# Altium footprint library Shrink Small Outline (~0.6mm Pitch).PcbLib: 43 footprints (part 2 of 3)
Each footprint in its own frame and in the unit in brackets; x right, y up, seen from the top. Pads: shape width x height; smd on the part's side, far side on the other; paste and mask are expansions set on the pad; w line width, h text height; cw(c..) or ccw(c..) is an arc to the next point about the centre after c.
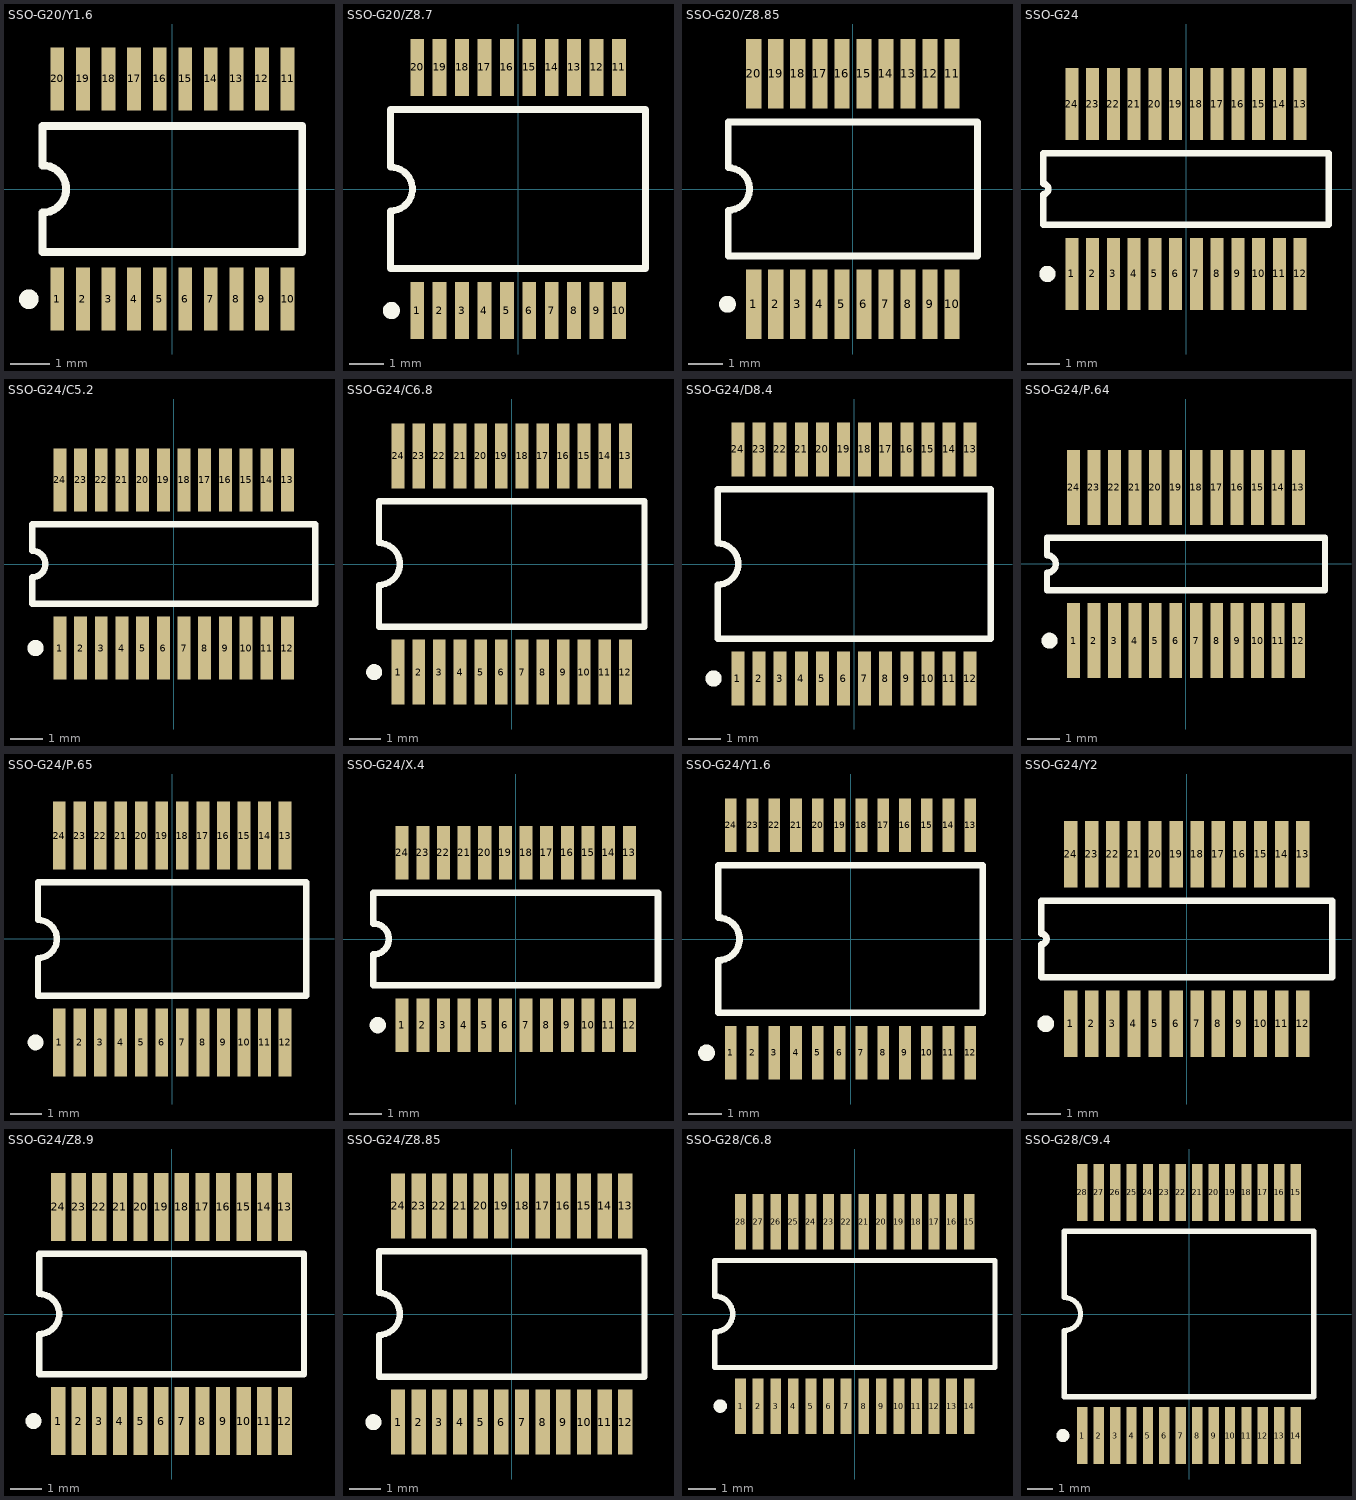
[diagram p1: the footprints below, top view; thin cyan lines are the x and y axes]

## SSO-G20/Y1.6 [mm] "SSOP; 20 Leads; Body Width 4.4 mm; Pitch 0.65 mm"
height 1.45
pads (20):
  rect 0.35x1.6 smd: 1(-2.925,-2.8) 2(-2.275,-2.8) 3(-1.625,-2.8) 4(-0.975,-2.8) 5(-0.325,-2.8) 6(0.325,-2.8) 7(0.975,-2.8) 8(1.625,-2.8) 9(2.275,-2.8) 10(2.925,-2.8) 11(2.925,2.8) 12(2.275,2.8) 13(1.625,2.8) 14(0.975,2.8) 15(0.325,2.8) 16(-0.325,2.8) 17(-0.975,2.8) 18(-1.625,2.8) 19(-2.275,2.8) 20(-2.925,2.8)
Top Overlay:
  circle w0.25: c-3.65,-2.8 r0.125
  lines w0.2: -3.3,-1.6 3.3,-1.6 3.3,1.6 -3.3,1.6 -3.3,0.6 cw(c-3.3,0) -3.3,-0.6 -3.3,-1.6

## SSO-G20/Z8.7 [mm] "SSOP; 20 Leads; Body Width 5.3 mm; Pitch 0.65 mm"
height 2.02
pads (20):
  rect 0.4x1.65 smd: 1(-2.925,-3.525) 2(-2.275,-3.525) 3(-1.625,-3.525) 4(-0.975,-3.525) 5(-0.325,-3.525) 6(0.325,-3.525) 7(0.975,-3.525) 8(1.625,-3.525) 9(2.275,-3.525) 10(2.925,-3.525) 11(2.925,3.525) 12(2.275,3.525) 13(1.625,3.525) 14(0.975,3.525) 15(0.325,3.525) 16(-0.325,3.525) 17(-0.975,3.525) 18(-1.625,3.525) 19(-2.275,3.525) 20(-2.925,3.525)
Top Overlay:
  circle w0.25: c-3.675,-3.525 r0.125
  lines w0.2: -3.7,-2.3 3.7,-2.3 3.7,2.3 -3.7,2.3 -3.7,0.635 cw(c-3.7,0) -3.7,-0.635 -3.7,-2.3

## SSO-G20/Z8.85 [mm] "SSOP; 20 Leads; Body Width 5.3 mm; Pitch 0.65 mm"
height 1.99
pads (20):
  rect 0.45x2.05 smd: 1(-2.925,-3.4) 2(-2.275,-3.4) 3(-1.625,-3.4) 4(-0.975,-3.4) 5(-0.325,-3.4) 6(0.325,-3.4) 7(0.975,-3.4) 8(1.625,-3.4) 9(2.275,-3.4) 10(2.925,-3.4) 11(2.925,3.4) 12(2.275,3.4) 13(1.625,3.4) 14(0.975,3.4) 15(0.325,3.4) 16(-0.325,3.4) 17(-0.975,3.4) 18(-1.625,3.4) 19(-2.275,3.4) 20(-2.925,3.4)
Top Overlay:
  circle w0.25: c-3.7,-3.4 r0.125
  lines w0.2: -3.675,-1.975 -3.675,-0.625 ccw(c-3.675,0) -3.675,0.625 -3.675,1.975 3.675,1.975 3.675,-1.975 -3.675,-1.975

## SSO-G24 [mm] "SSOP; 24 Leads; Body Width 3.9 mm; Pitch 0.635 mm"
height 1.76
pads (24):
  rect 0.4x2.2 smd: 1(-3.492,-2.6) 2(-2.857,-2.6) 3(-2.222,-2.6) 4(-1.587,-2.6) 5(-0.953,-2.6) 6(-0.318,-2.6) 7(0.318,-2.6) 8(0.953,-2.6) 9(1.587,-2.6) 10(2.222,-2.6) 11(2.857,-2.6) 12(3.492,-2.6) 13(3.492,2.6) 14(2.857,2.6) 15(2.222,2.6) 16(1.587,2.6) 17(0.953,2.6) 18(0.318,2.6) 19(-0.318,2.6) 20(-0.953,2.6) 21(-1.587,2.6) 22(-2.222,2.6) 23(-2.857,2.6) 24(-3.492,2.6)
Top Overlay:
  circle w0.25: c-4.243,-2.6 r0.125
  lines w0.2: -4.375,-1.1 -4.375,-0.159 ccw(c-4.375,0) -4.375,0.159 -4.375,1.1 4.375,1.1 4.375,-1.1 -4.375,-1.1

## SSO-G24/C5.2 [mm] "SSOP; 24 Leads; Body Width 3.9 mm; Pitch 0.64 mm"
height 1.75
pads (24):
  rect 0.4x1.95 smd: 1(-3.52,-2.6) 2(-2.88,-2.6) 3(-2.24,-2.6) 4(-1.6,-2.6) 5(-0.96,-2.6) 6(-0.32,-2.6) 7(0.32,-2.6) 8(0.96,-2.6) 9(1.6,-2.6) 10(2.24,-2.6) 11(2.88,-2.6) 12(3.52,-2.6) 13(3.52,2.6) 14(2.88,2.6) 15(2.24,2.6) 16(1.6,2.6) 17(0.96,2.6) 18(0.32,2.6) 19(-0.32,2.6) 20(-0.96,2.6) 21(-1.6,2.6) 22(-2.24,2.6) 23(-2.88,2.6) 24(-3.52,2.6)
Top Overlay:
  circle w0.25: c-4.27,-2.6 r0.125
  lines w0.2: -4.375,-1.225 -4.375,-0.408 ccw(c-4.375,0) -4.375,0.408 -4.375,1.225 4.375,1.225 4.375,-1.225 -4.375,-1.225

## SSO-G24/C6.8 [mm] "SSOP; 24 Leads; Body Width 5.3 mm; Pitch 0.65 mm"
height 1.99
pads (24):
  rect 0.4x2.05 smd: 1(-3.575,-3.4) 2(-2.925,-3.4) 3(-2.275,-3.4) 4(-1.625,-3.4) 5(-0.975,-3.4) 6(-0.325,-3.4) 7(0.325,-3.4) 8(0.975,-3.4) 9(1.625,-3.4) 10(2.275,-3.4) 11(2.925,-3.4) 12(3.575,-3.4) 13(3.575,3.4) 14(2.925,3.4) 15(2.275,3.4) 16(1.625,3.4) 17(0.975,3.4) 18(0.325,3.4) 19(-0.325,3.4) 20(-0.975,3.4) 21(-1.625,3.4) 22(-2.275,3.4) 23(-2.925,3.4) 24(-3.575,3.4)
Top Overlay:
  circle w0.25: c-4.325,-3.4 r0.125
  lines w0.2: -4.175,-1.975 -4.175,-0.658 ccw(c-4.175,0) -4.175,0.658 -4.175,1.975 4.175,1.975 4.175,-1.975 -4.175,-1.975

## SSO-G24/D8.4 [mm] "SSOP; 24 Leads; Body Width 5.3 mm; Pitch 0.65 mm"
height 2.02
pads (24):
  rect 0.4x1.65 smd: 1(-3.575,-3.525) 2(-2.925,-3.525) 3(-2.275,-3.525) 4(-1.625,-3.525) 5(-0.975,-3.525) 6(-0.325,-3.525) 7(0.325,-3.525) 8(0.975,-3.525) 9(1.625,-3.525) 10(2.275,-3.525) 11(2.925,-3.525) 12(3.575,-3.525) 13(3.575,3.525) 14(2.925,3.525) 15(2.275,3.525) 16(1.625,3.525) 17(0.975,3.525) 18(0.325,3.525) 19(-0.325,3.525) 20(-0.975,3.525) 21(-1.625,3.525) 22(-2.275,3.525) 23(-2.925,3.525) 24(-3.575,3.525)
Top Overlay:
  circle w0.25: c-4.325,-3.525 r0.125
  lines w0.2: -4.2,-2.3 4.2,-2.3 4.2,2.3 -4.2,2.3 -4.2,0.635 cw(c-4.2,0) -4.2,-0.635 -4.2,-2.3

## SSO-G24/P.64 [mm] "SSOP; 24 Leads; Body Width 3.9 mm; Pitch 0.64 mm"
height 1.75
pads (24):
  rect 0.4x2.35 smd: 1(-3.52,-2.4) 2(-2.88,-2.4) 3(-2.24,-2.4) 4(-1.6,-2.4) 5(-0.96,-2.4) 6(-0.32,-2.4) 7(0.32,-2.4) 8(0.96,-2.4) 9(1.6,-2.4) 10(2.24,-2.4) 11(2.88,-2.4) 12(3.52,-2.4) 13(3.52,2.4) 14(2.88,2.4) 15(2.24,2.4) 16(1.6,2.4) 17(0.96,2.4) 18(0.32,2.4) 19(-0.32,2.4) 20(-0.96,2.4) 21(-1.6,2.4) 22(-2.24,2.4) 23(-2.88,2.4) 24(-3.52,2.4)
Top Overlay:
  circle w0.25: c-4.27,-2.4 r0.125
  lines w0.2: -4.35,-0.825 -4.35,-0.275 ccw(c-4.35,0) -4.35,0.275 -4.35,0.825 4.35,0.825 4.35,-0.825 -4.35,-0.825

## SSO-G24/P.65 [mm] "SSOP, Plastic; 24 Leads; Body Width 5.3 mm; Pitch 0.65 mm"
height 2
pads (24):
  rect 0.4x2.15 smd: 1(-3.575,-3.275) 2(-2.925,-3.275) 3(-2.275,-3.275) 4(-1.625,-3.275) 5(-0.975,-3.275) 6(-0.325,-3.275) 7(0.325,-3.275) 8(0.975,-3.275) 9(1.625,-3.275) 10(2.275,-3.275) 11(2.925,-3.275) 12(3.575,-3.275) 13(3.575,3.275) 14(2.925,3.275) 15(2.275,3.275) 16(1.625,3.275) 17(0.975,3.275) 18(0.325,3.275) 19(-0.325,3.275) 20(-0.975,3.275) 21(-1.625,3.275) 22(-2.275,3.275) 23(-2.925,3.275) 24(-3.575,3.275)
Top Overlay:
  circle w0.25: c-4.325,-3.275 r0.125
  lines w0.2: -4.25,-1.8 -4.25,-0.6 ccw(c-4.25,0) -4.25,0.6 -4.25,1.8 4.25,1.8 4.25,-1.8 -4.25,-1.8

## SSO-G24/X.4 [mm] "SSOP; 24 Leads; Body Width 3.9 mm; Pitch 0.635 mm"
height 1.73
pads (24):
  rect 0.4x1.65 smd: 1(-3.492,-2.65) 2(-2.857,-2.65) 3(-2.222,-2.65) 4(-1.587,-2.65) 5(-0.953,-2.65) 6(-0.318,-2.65) 7(0.318,-2.65) 8(0.953,-2.65) 9(1.587,-2.65) 10(2.222,-2.65) 11(2.857,-2.65) 12(3.492,-2.65) 13(3.492,2.65) 14(2.857,2.65) 15(2.222,2.65) 16(1.587,2.65) 17(0.953,2.65) 18(0.318,2.65) 19(-0.318,2.65) 20(-0.953,2.65) 21(-1.587,2.65) 22(-2.222,2.65) 23(-2.857,2.65) 24(-3.492,2.65)
Top Overlay:
  circle w0.25: c-4.243,-2.65 r0.125
  lines w0.2: -4.375,-1.425 -4.375,-0.475 ccw(c-4.375,0) -4.375,0.475 -4.375,1.425 4.375,1.425 4.375,-1.425 -4.375,-1.425

## SSO-G24/Y1.6 [mm] "SSOP; 24 Leads; Body Width 5.6 mm; Pitch 0.65 mm"
height 1.45
pads (24):
  rect 0.35x1.6 smd: 1(-3.575,-3.4) 2(-2.925,-3.4) 3(-2.275,-3.4) 4(-1.625,-3.4) 5(-0.975,-3.4) 6(-0.325,-3.4) 7(0.325,-3.4) 8(0.975,-3.4) 9(1.625,-3.4) 10(2.275,-3.4) 11(2.925,-3.4) 12(3.575,-3.4) 13(3.575,3.4) 14(2.925,3.4) 15(2.275,3.4) 16(1.625,3.4) 17(0.975,3.4) 18(0.325,3.4) 19(-0.325,3.4) 20(-0.975,3.4) 21(-1.625,3.4) 22(-2.275,3.4) 23(-2.925,3.4) 24(-3.575,3.4)
Top Overlay:
  circle w0.25: c-4.3,-3.4 r0.125
  lines w0.2: -3.95,-2.2 -3.95,-0.635 ccw(c-3.95,0) -3.95,0.635 -3.95,2.2 3.95,2.2 3.95,-2.2 -3.95,-2.2

## SSO-G24/Y2 [mm] "SSOP; 24 Leads; Body Width 3.9 mm; Pitch 0.635 mm"
height 1.76
pads (24):
  rect 0.4x2 smd: 1(-3.492,-2.55) 2(-2.857,-2.55) 3(-2.222,-2.55) 4(-1.587,-2.55) 5(-0.953,-2.55) 6(-0.318,-2.55) 7(0.318,-2.55) 8(0.953,-2.55) 9(1.587,-2.55) 10(2.222,-2.55) 11(2.857,-2.55) 12(3.492,-2.55) 13(3.492,2.55) 14(2.857,2.55) 15(2.222,2.55) 16(1.587,2.55) 17(0.953,2.55) 18(0.318,2.55) 19(-0.318,2.55) 20(-0.953,2.55) 21(-1.587,2.55) 22(-2.222,2.55) 23(-2.857,2.55) 24(-3.492,2.55)
Top Overlay:
  circle w0.25: c-4.243,-2.55 r0.125
  lines w0.2: -4.375,-1.15 -4.375,-0.159 ccw(c-4.375,0) -4.375,0.159 -4.375,1.15 4.375,1.15 4.375,-1.15 -4.375,-1.15

## SSO-G24/Z8.9 [mm] "SSOP; 24 Leads; Body Width 5.3 mm; Pitch 0.65 mm"
height 1.99
pads (24):
  rect 0.45x2.15 smd: 1(-3.575,-3.375) 2(-2.925,-3.375) 3(-2.275,-3.375) 4(-1.625,-3.375) 5(-0.975,-3.375) 6(-0.325,-3.375) 7(0.325,-3.375) 8(0.975,-3.375) 9(1.625,-3.375) 10(2.275,-3.375) 11(2.925,-3.375) 12(3.575,-3.375) 13(3.575,3.375) 14(2.925,3.375) 15(2.275,3.375) 16(1.625,3.375) 17(0.975,3.375) 18(0.325,3.375) 19(-0.325,3.375) 20(-0.975,3.375) 21(-1.625,3.375) 22(-2.275,3.375) 23(-2.925,3.375) 24(-3.575,3.375)
Top Overlay:
  circle w0.25: c-4.35,-3.375 r0.125
  lines w0.2: -4.175,-1.9 4.175,-1.9 4.175,1.9 -4.175,1.9 -4.175,0.633 cw(c-4.175,0) -4.175,-0.633 -4.175,-1.9

## SSO-G24/Z8.85 [mm] "SSOP; 24 Leads; Body Width 5.3 mm; Pitch 0.65 mm"
height 1.99
pads (24):
  rect 0.45x2.05 smd: 1(-3.575,-3.4) 2(-2.925,-3.4) 3(-2.275,-3.4) 4(-1.625,-3.4) 5(-0.975,-3.4) 6(-0.325,-3.4) 7(0.325,-3.4) 8(0.975,-3.4) 9(1.625,-3.4) 10(2.275,-3.4) 11(2.925,-3.4) 12(3.575,-3.4) 13(3.575,3.4) 14(2.925,3.4) 15(2.275,3.4) 16(1.625,3.4) 17(0.975,3.4) 18(0.325,3.4) 19(-0.325,3.4) 20(-0.975,3.4) 21(-1.625,3.4) 22(-2.275,3.4) 23(-2.925,3.4) 24(-3.575,3.4)
Top Overlay:
  circle w0.25: c-4.35,-3.4 r0.125
  lines w0.2: -4.175,-1.975 -4.175,-0.658 ccw(c-4.175,0) -4.175,0.658 -4.175,1.975 4.175,1.975 4.175,-1.975 -4.175,-1.975

## SSO-G28/C6.8 [mm] "SSOP, Plastic; 28 Leads; Body Width 5.2 mm; Pitch 0.65 mm"
height 1.99
pads (28):
  rect 0.4x2.05 smd: 1(-4.225,-3.4) 2(-3.575,-3.4) 3(-2.925,-3.4) 4(-2.275,-3.4) 5(-1.625,-3.4) 6(-0.975,-3.4) 7(-0.325,-3.4) 8(0.325,-3.4) 9(0.975,-3.4) 10(1.625,-3.4) 11(2.275,-3.4) 12(2.925,-3.4) 13(3.575,-3.4) 14(4.225,-3.4) 15(4.225,3.4) 16(3.575,3.4) 17(2.925,3.4) 18(2.275,3.4) 19(1.625,3.4) 20(0.975,3.4) 21(0.325,3.4) 22(-0.325,3.4) 23(-0.975,3.4) 24(-1.625,3.4) 25(-2.275,3.4) 26(-2.925,3.4) 27(-3.575,3.4) 28(-4.225,3.4)
Top Overlay:
  circle w0.25: c-4.975,-3.4 r0.125
  lines w0.2: -5.175,-1.975 -5.175,-0.658 ccw(c-5.175,0) -5.175,0.658 -5.175,1.975 5.175,1.975 5.175,-1.975 -5.175,-1.975

## SSO-G28/C9.4 [mm] "SSOP; 28 Leads; Body Width 7.5 mm; Pitch 0.635 mm"
height 2.79
pads (28):
  rect 0.4x2.2 smd: 1(-4.127,-4.7) 2(-3.492,-4.7) 3(-2.857,-4.7) 4(-2.222,-4.7) 5(-1.587,-4.7) 6(-0.953,-4.7) 7(-0.318,-4.7) 8(0.318,-4.7) 9(0.953,-4.7) 10(1.587,-4.7) 11(2.222,-4.7) 12(2.857,-4.7) 13(3.492,-4.7) 14(4.127,-4.7) 15(4.127,4.7) 16(3.492,4.7) 17(2.857,4.7) 18(2.222,4.7) 19(1.587,4.7) 20(0.953,4.7) 21(0.318,4.7) 22(-0.318,4.7) 23(-0.953,4.7) 24(-1.587,4.7) 25(-2.222,4.7) 26(-2.857,4.7) 27(-3.492,4.7) 28(-4.127,4.7)
Top Overlay:
  circle w0.25: c-4.878,-4.7 r0.125
  lines w0.2: -4.825,-3.2 -4.825,-0.635 ccw(c-4.825,0) -4.825,0.635 -4.825,3.2 4.825,3.2 4.825,-3.2 -4.825,-3.2